# Altium footprint library CC254x.PcbLib: 18 footprints (part 1 of 2)
Each footprint in its own frame and in the unit in brackets; x right, y up, seen from the top. Pads: shape width x height; smd on the part's side, far side on the other; paste and mask are expansions set on the pad; w line width, h text height; cw(c..) or ccw(c..) is an arc to the next point about the centre after c.
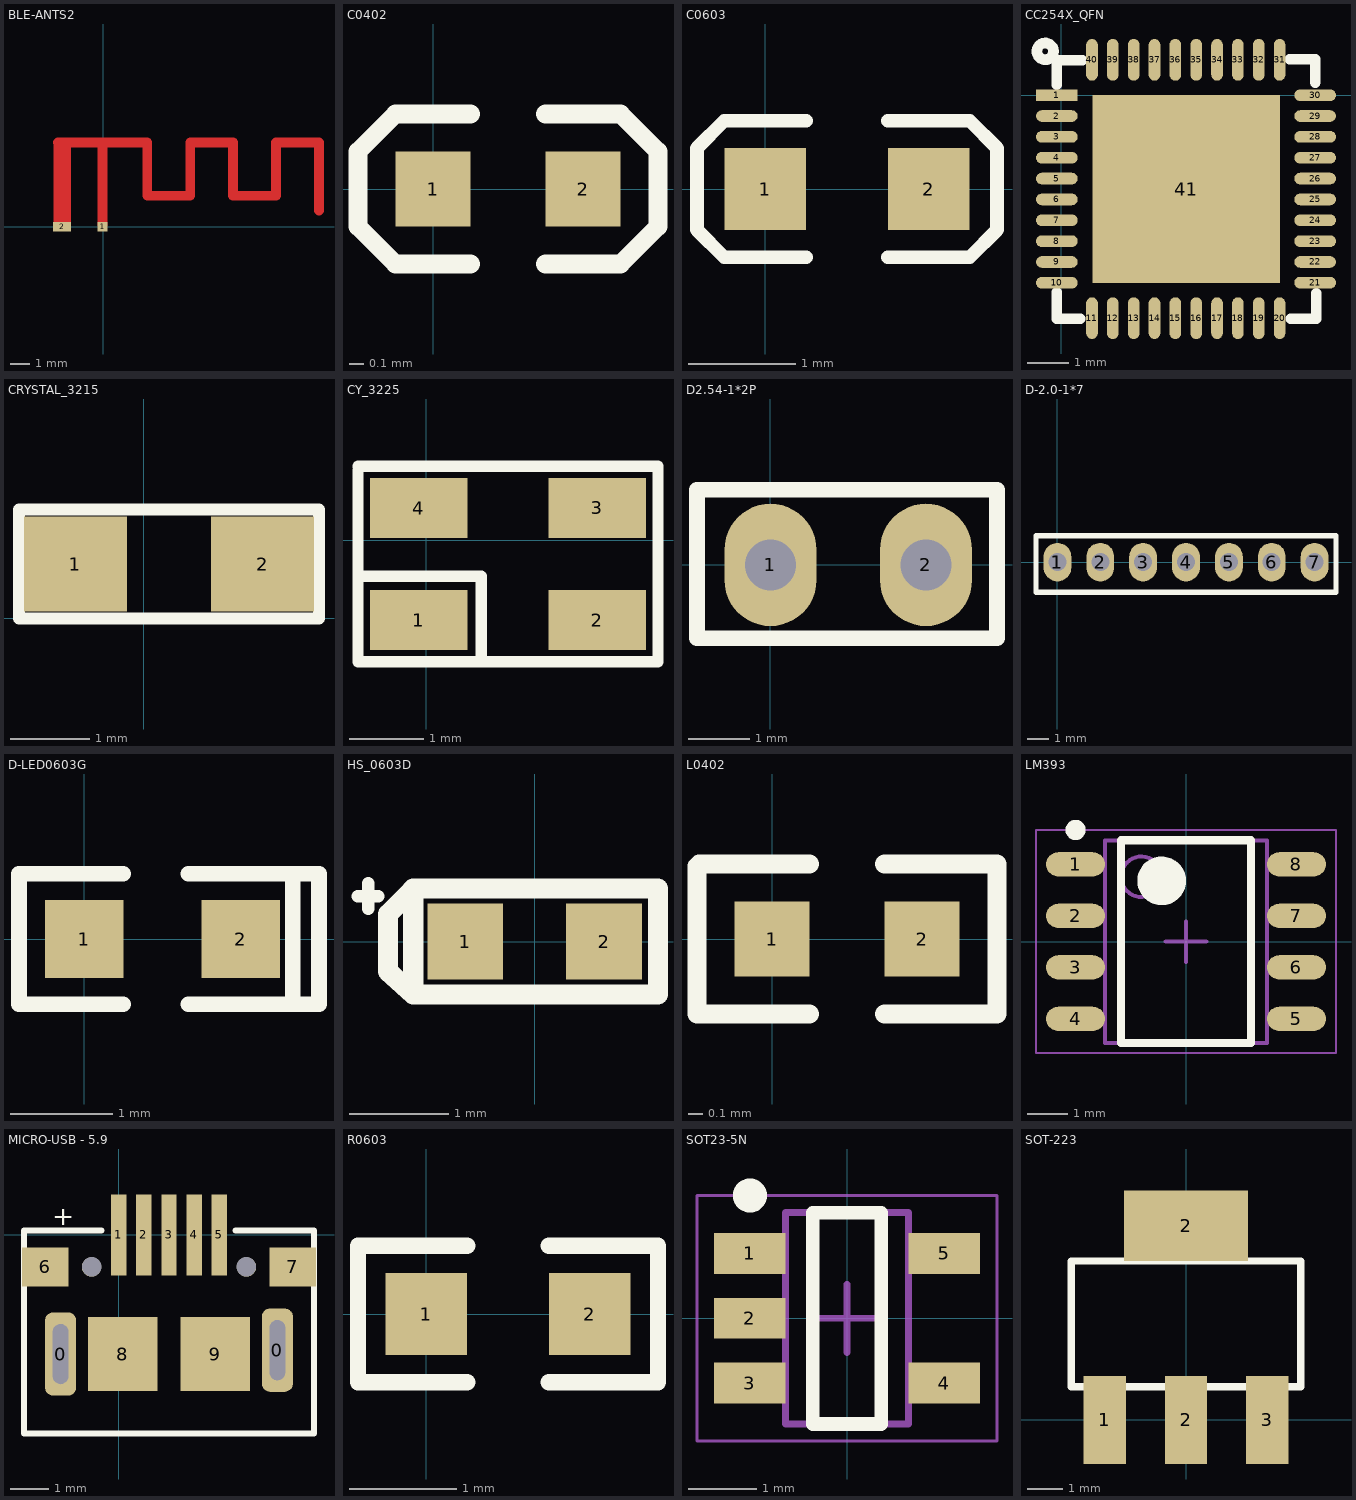
[diagram p0: the footprints below, top view; thin cyan lines are the x and y axes]

## BLE-ANTS2 [mm]
height 0.254
pads (2):
  rect 0.5x0.5 smd: 1(-0.025,0)
  rect 0.889x0.5 smd: 2(-2.083,0)
Top Layer:
  region: -1.615,-0.066 -1.615,4.326 -2.515,4.326 -2.515,-0.066
  lines w0.5: -2.288,4.263 -0.025,4.263 ; -0.025,0.125 -0.025,4.263 ; 6.59,4.263 6.579,4.263 ; 10.933,0.823 10.933,4.263 8.756,4.263 8.756,1.565 6.579,1.565 6.579,4.263 ; -0.025,4.263 2.235,4.263 2.235,1.565 4.412,1.565 4.412,4.263 6.579,4.263

## C0402 [mil]
height 10
pads (2):
  rect 20x20 smd: 1(0,0) 2(40,0)
Top Overlay:
  lines w5: 10,-20 -10,-20 -20,-10 -20,10 -10,20 10,20 ; 30,-20 50,-20 60,-10 60,-5 60,10 50,20 30,20
3D body "C0402.STEP": height 19.84, standoff 0.16, extent 0.32,-10 39.68,10.08

## C0603 [mil]
height 12
pads (2):
  rect 30x30 smd: 1(0,0) 2(60,0)
Top Overlay:
  lines w5: 15,-25 -15,-25 -25,-15 -25,15 -15,25 15,25 ; 45,-25 75,-25 85,-15 85,15 75,25 45,25
3D body "C0603.STEP": height 11.89, standoff 0, extent -1.5,-15.5 61.5,16

## CC254X_QFN [mm]
pads (41):
  rect 1x0.28 smd: 1(-0.1,0)
  oval 1x0.28 smd: 2(-0.1,-0.5) 3(-0.1,-1) 4(-0.1,-1.5) 5(-0.1,-2) 6(-0.1,-2.5) 7(-0.1,-3) 8(-0.1,-3.5) 9(-0.1,-4) 10(-0.1,-4.5) 21(6.094,-4.496) 22(6.094,-4) 23(6.094,-3.5) 24(6.094,-3) 25(6.094,-2.5) 26(6.094,-2) 27(6.094,-1.5) 28(6.094,-1) 29(6.094,-0.5) 30(6.094,0)
  oval 0.28x1 smd: 11(0.742,-5.348) 12(1.242,-5.348) 13(1.742,-5.348) 14(2.242,-5.348) 15(2.742,-5.348) 16(3.242,-5.348) 17(3.742,-5.348) 18(4.242,-5.348) 19(4.742,-5.348) 20(5.242,-5.348) 31(5.242,0.848) 32(4.742,0.848) 33(4.242,0.848) 34(3.742,0.848) 35(3.242,0.848) 36(2.742,0.848) 37(2.242,0.848) 38(1.742,0.848) 39(1.242,0.848) 40(0.742,0.848)
  rect 4.5x4.5 smd: 41(2.998,-2.25)
Top Overlay:
  circle w0.254: c-0.38,1.052 r0.2
  lines w0.254: -0.102,-4.724 -0.102,-5.359 0.457,-5.359 ; -0.102,0.254 -0.102,0.838 0.508,0.838 ; 5.486,0.864 6.096,0.864 6.096,0.305 ; 5.512,-5.359 6.121,-5.359 6.121,-4.75

## CRYSTAL_3215 [mm]
pads (2):
  rect 1.3x1.2 smd: 1(-0.864,0.686) 2(1.499,0.686)
Top Overlay:
  lines w0.152: -1.575,0 -1.575,1.372 2.21,1.372 2.21,0 -1.575,0

## CY_3225 [mm]
pads (4):
  rect 1.3x0.8 smd: 1(-0.102,-1.067) 2(2.286,-1.067) 3(2.286,0.432) 4(-0.102,0.432)
Top Overlay:
  lines w0.152: -0.914,-1.473 -0.914,-1.397 ; -0.914,-0.483 0.737,-0.483 0.737,-1.626 ; -0.914,0.94 -0.914,-1.626 2.997,-1.626 ; -0.914,0.991 2.997,0.991 ; 1.448,0.991 3.099,0.991 3.099,-1.626 2.921,-1.626

## D2.54-1*2P [mm]
height 0.254
pads (2):
  oval 1.5x2 hole 0.838: 1(0,0) 2(2.54,0)
Top Overlay:
  lines w0.254: -1.2,-1.2 -1.2,1.23 3.7,1.23 3.7,0.573 3.7,-0.743 3.7,-1.2 -1.2,-1.2
3D body: height 2.54, standoff 0, extent -1.1,-1.3 3.6,1.24
3D body: height 10, standoff -4, extent 2.142,-0.399 2.939,0.399
3D body: height 10, standoff -4, extent -0.398,-0.399 0.399,0.399

## D-2.0-1*7 [mm]
height 0.254
pads (8):
  oval 1.3x1.8 hole 0.838: 1(0,0) 1(0,0) 2(2,0) 3(4,0) 4(6,0) 5(8,0) 6(10,0) 7(12,0)
Top Overlay:
  lines w0.254: -1,-1.4 13,-1.4 13,1.23 -1,1.23 -1,-1.4
3D body: height 10, standoff -4, extent -0.398,-0.399 0.399,0.399
3D body: height 2.54, standoff 0, extent -1,-1.444 13,1.23
3D body: height 10, standoff -4, extent -0.398,-0.399 0.399,0.399
3D body: height 10, standoff -4, extent 1.602,-0.399 2.399,0.399
3D body: height 10, standoff -4, extent 3.602,-0.399 4.399,0.399
3D body: height 10, standoff -4, extent 5.602,-0.399 6.399,0.399
3D body: height 10, standoff -4, extent 7.602,-0.399 8.399,0.399
3D body: height 10, standoff -4, extent 9.602,-0.399 10.399,0.399
3D body: height 10, standoff -4, extent 11.602,-0.399 12.399,0.399

## D-LED0603G [mil]
height 39.37
pads (2):
  rect 30x30 smd: 1(0,0) 2(60,0)
Top Overlay:
  lines w6: 15,-25 -25,-25 -25,25 15,25 ; 40,-25 90,-25 90,25 40,25 ; 80,-25 80,25
3D body "LED_0603_GREEN.STEP": height 23.62, standoff 0, extent -1.89,-16.5 61.89,15

## HS_0603D [mil]
height 100
pads (2):
  rect 30x30 smd: 1(-27.5,0) 2(27.5,0)
Top Overlay:
  lines w5: -70,18 -62,18 ; -66,13 -66,23
  lines w8: -49,20 -58.12,10.88 -58.12,-11.87 -48.12,-21 ; -48.12,20 -48.12,-21 ; -48.12,21 48.88,21 48.88,-21 -48.12,-21

## L0402 [mil] "贴片电感"
height 10
pads (2):
  rect 20x20 smd: 1(0,0) 2(40,0)
Top Overlay:
  lines w5: 10,-20 -20,-20 -20,19.37 -19.37,20 10,20 ; 30,-20 60,-20 60,-5 60,20 30,20
3D body "C0402.STEP": height 19.84, standoff 0.16, extent 0.32,-10 39.69,10.08

## LM393 [mm] "SOP, 8-Leads, Body 4.90x3.90mm, Pitch 1.27mm, IPC Medium Density"
height 1.75
pads (8):
  oval 1.45x0.6 smd: 1(-2.725,1.905) 2(-2.725,0.635) 3(-2.725,-0.635) 4(-2.725,-1.905) 5(2.725,-1.905) 6(2.725,-0.635) 7(2.725,0.635) 8(2.725,1.905)
Top Overlay:
  circle w0.25: c-2.725,2.755 r0.125
  circle w0.6: c-0.6,1.5 r0.3
  lines w0.2: -1.6,-2.5 -1.6,2.5 1.6,2.5 1.6,-2.5 -1.6,-2.5
Mechanical 13:
  circle w0.1: c-1.1,1.6 r0.5
  lines w0.1: -2,-2.5 -2,2.5 2,2.5 2,-2.5 -2,-2.5
Mechanical 15:
  lines w0.05: -3.7,-2.75 -3.7,2.75 3.7,2.75 3.7,-2.75 -3.7,-2.75
  lines w0.1: -0.5,0 0.5,0 ; 0,-0.5 0,0.5
3D body: height 1.75, standoff 0.25, extent -2,-2.5 2,2.5

## MICRO-USB - 5.9 [mm]
height 0.254
pads (13):
  rrect50% 0.8x2.15 hole 0.4 slot 1.55 at 90 deg: 0(-1.5,-3.075) 0(4.1,-2.975)
  rect 0.4x2.1 smd: 1(0,0) 2(0.65,0) 3(1.3,0) 4(1.95,0) 5(2.6,0)
  rect 1.2x1 smd: 6(-1.9,-0.825) 7(4.5,-0.825)
  rect 1.8x1.9 smd: 8(0.106,-3.075) 9(2.493,-3.075)
  round 0.5 hole 0.5 unplated: ""(-0.7,-0.825) ""(3.3,-0.825)
Top Overlay:
  lines w0.152: -0.443,0.118 -2.45,0.118 -2.45,-5.132 5.05,-5.132 5.05,0.118 3.019,0.118
  text "+" at -1.713,0.252 h0.5

## R0603 [mil]
height 12
pads (2):
  rect 30x30 smd: 1(0,0) 2(60,0)
Top Overlay:
  lines w6: 15,-25 -25,-25 -25,25 15,25 ; 45,-25 85,-25 85,25 45,25
3D body "R0603.STEP": height 17.72, standoff 0, extent -0.5,-16 62.5,15.5

## SOT23-5N [mm] "SOT23, 5-Leads, Body 2.90x2.70mm, Pitch 0.95mm, IPC Medium Density"
height 1.45
pads (5):
  rect 1.05x0.6 smd: 1(-1.425,0.95) 2(-1.425,0) 3(-1.425,-0.95) 4(1.425,-0.95) 5(1.425,0.95)
Top Overlay:
  circle w0.25: c-1.425,1.8 r0.125
  lines w0.2: -0.5,-1.55 0.5,-1.55 0.5,1.55 -0.5,1.55 -0.5,-1.55
Mechanical 13:
  lines w0.1: -0.9,-1.55 -0.9,1.55 0.9,1.55 0.9,-1.55 -0.9,-1.55
Mechanical 15:
  lines w0.05: -2.2,-1.8 -2.2,1.8 2.2,1.8 2.2,-1.8 -2.2,-1.8
  lines w0.1: -0.5,0 0.5,0 ; 0,-0.5 0,0.5
3D body: height 1.45, standoff 0.15, extent -0.9,-1.55 0.9,1.55

## SOT-223 [mm]
height 0.254
pads (4):
  rect 1.2x2.5 smd: 1(-2.3,0) 2(0,0) 3(2.3,0)
  rect 3.5x2 smd: 2(0,5.5)
Top Overlay:
  lines w0.203: -3.25,0.94 3.25,0.94 3.25,4.5 -3.25,4.5 -3.25,0.94